# Altium integrated library altera-stratix-iv.IntLib: 38 symbols (part 13 of 21)
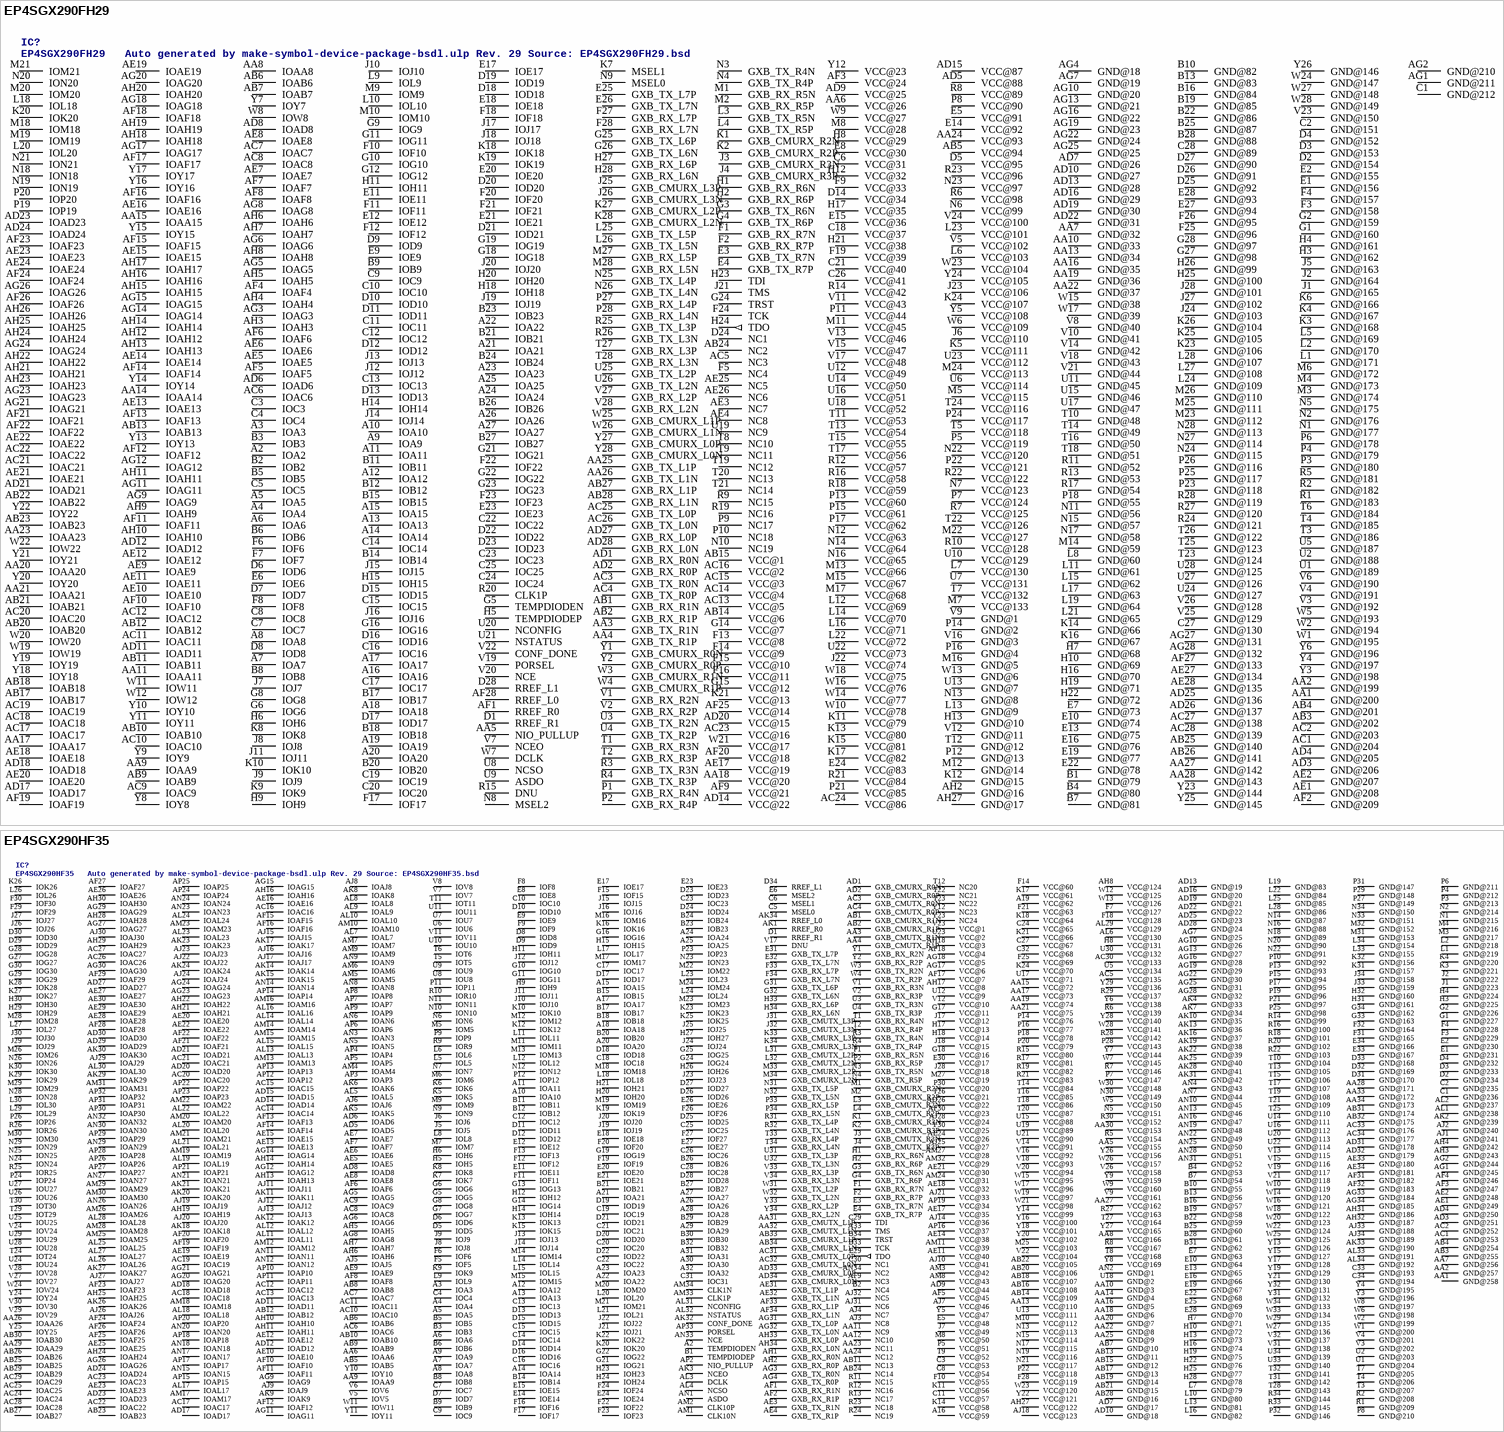
[diagram p28: symbols EP4SGX290FH29 to EP4SGX290HF35]

## EP4SGX290FH29
designator IC?, comment EP4SGX290FH29   Auto generated by make-symbol-device-package-bsdl.ulp Rev. 29 Source: EP4SGX290FH29.bsd
MPN: EP4SGX290FH29C3N; OC_FARNELL: unknown; OC_NEWARK: 52R1895
footprint FBGA780
pins: A2 IOA2, A3 IOA3, A4 IOA4, A5 IOA5, A6 IOA6, A7 IOA7, A8 IOA8, A9 IOA9, A10 IOA10, A11 IOA11, A12 IOA12, A13 IOA13, A14 IOA14, A15 IOA15, A16 IOA16, A17 IOA17, A18 IOA18, A19 IOA19, A20 IOA20, A21 IOA21, A22 IOA22, A23 IOA23, A24 IOA24, A25 IOA25, A26 IOA26, A27 IOA27, AA1 GND@200 (power), AA2 GND@199 (power), AA3 GXB_TX_R1N, AA4 GXB_TX_R1P, AA5 NIO_PULLUP, AA6 VCC@26 (power), AA7 GND@32 (power), AA8 IOAA8, AA9 IOAA9, AA10 GND@33 (power), AA11 IOAA11, AA13 GND@34 (power), AA14 IOAA14, AA15 IOAA15, AA16 GND@35 (power), AA17 IOAA17, AA18 VCC@20 (power), AA19 GND@36 (power), AA20 IOAA20, AA21 IOAA21, AA22 GND@37 (power), AA23 IOAA23, AA24 VCC@93 (power), AA25 GXB_TX_L1P, AA26 GXB_TX_L1N, AA27 GND@142 (power), AA28 GND@143 (power), AB1 GXB_RX_R1N, AB2 GXB_RX_R1P, AB3 GND@202 (power), AB4 GND@201 (power), AB5 VCC@94 (power), AB6 IOAB6, AB7 IOAB7, AB9 IOAB9, AB10 IOAB10, AB11 IOAB11, AB12 IOAB12, AB13 IOAB13, AB14 VCC@6 (power), AB15 VCC@1 (power), AB17 IOAB17, AB18 IOAB18, AB20 IOAB20, AB21 IOAB21, AB22 IOAB22, AB23 IOAB23, AB24 NC2, AB25 GND@140 (power), AB26 GND@141 (power), AB27 GXB_RX_L1P, AB28 GXB_RX_L1N, AC1 GND@204 (power), AC2 GND@203 (power), AC3 GXB_TX_R0N, AC4 GXB_TX_R0P, AC5 NC3, AC6 IOAC6, AC7 IOAC7, AC8 IOAC8, AC9 IOAC9, AC10 IOAC10, AC11 IOAC11, AC12 IOAC12, AC13 VCC@5 (power), AC14 VCC@4 (power), AC15 VCC@3 (power), AC16 VCC@2 (power), AC17 IOAC17, AC18 IOAC18, AC19 IOAC19, AC20 IOAC20, AC21 IOAC21, AC22 IOAC22, AC23 VCC@16 (power), AC24 VCC@86 (power), AC25 GXB_TX_L0P, AC26 GXB_TX_L0N, AC27 GND@138 (power), AC28 GND@139 (power), AD1 GXB_RX_R0N, AD2 GXB_RX_R0P, AD3 GND@206 (power), AD4 GND@205 (power), AD5 VCC@88 (power), AD6 IOAD6, AD7 GND@26 (power), AD8 IOAD8, AD9 VCC@25 (power), AD10 GND@27 (power), AD11 IOAD11, AD12 IOAD12, AD13 GND@28 (power), AD14 VCC@22 (power), AD15 VCC@87 (power), AD16 GND@29 (power), AD17 IOAD17, AD18 IOAD18, AD19 GND@30 (power), AD20 VCC@15 (power), AD21 IOAD21, AD22 GND@31 (power), AD23 IOAD23, AD24 IOAD24, AD25 GND@136 (power), AD26 GND@137 (power), AD27 GXB_RX_L0P, AD28 GXB_RX_L0N, AE1 GND@208 (power), AE2 GND@207 (power), AE3 NC7, AE4 NC8, AE5 IOAE5, AE6 IOAE6, AE7 IOAE7, AE8 IOAE8, AE9 IOAE9, AE10 IOAE10, AE11 IOAE11, AE12 IOAE12, AE13 IOAE13, AE14 IOAE14, AE15 IOAE15, AE16 IOAE16, AE17 VCC@19 (power), AE18 IOAE18, AE19 IOAE19, AE20 IOAE20, AE21 IOAE21, AE22 IOAE22, AE23 IOAE23, AE24 IOAE24, AE25 NC5, AE26 NC6, AE27 GND@134 (power), AE28 GND@135 (power), AF1 RREF_R0, AF2 GND@209 (power), AF3 VCC@24 (power), AF4 IOAF4, AF5 IOAF5, AF6 IOAF6, AF7 IOAF7, AF8 IOAF8, AF9 VCC@21 (power), AF10 IOAF10, AF11 IOAF11, AF12 IOAF12, AF13 IOAF13, AF14 IOAF14, AF15 IOAF15, AF16 IOAF16, AF17 IOAF17, AF18 IOAF18, AF19 IOAF19, AF20 VCC@18 (power), AF21 IOAF21, AF22 IOAF22, AF23 IOAF23, AF24 IOAF24, AF25 VCC@14 (power), AF26 IOAF26, AF27 GND@133 (power), AF28 RREF_L0, AG1 GND@211 (power), AG2 GND@210 (power), AG3 IOAG3, AG4 GND@18 (power), AG5 IOAG5, AG6 IOAG6, AG7 GND@19 (power), AG8 IOAG8, AG9 IOAG9, AG10 GND@20 (power), AG11 IOAG11, AG12 IOAG12, AG13 GND@21 (power), AG14 IOAG14, AG15 IOAG15, AG16 GND@22 (power), AG17 IOAG17, AG18 IOAG18, AG19 GND@23 (power), AG20 IOAG20, AG21 IOAG21, AG22 GND@24 (power), AG23 IOAG23, AG24 IOAG24, AG25 GND@25 (power), AG26 IOAG26, AG27 GND@131 (power), AG28 GND@132 (power), AH2 GND@16 (power), AH3 IOAH3, AH4 IOAH4, AH5 IOAH5, AH6 IOAH6, AH7 IOAH7, AH8 IOAH8, AH9 IOAH9, AH10 IOAH10, AH11 IOAH11, AH12 IOAH12, AH13 IOAH13, AH14 IOAH14, AH15 IOAH15, AH16 IOAH16, AH17 IOAH17, AH18 IOAH18, AH19 IOAH19, AH20 IOAH20, AH21 IOAH21, AH22 IOAH22, AH23 IOAH23, AH24 IOAH24, AH25 IOAH25, AH26 IOAH26, AH27 GND@17 (power), B1 GND@79 (power), B2 IOB2, B3 IOB3, B4 GND@80 (power), B5 IOB5, B6 IOB6, B7 GND@81 (power), B8 IOB8, B9 IOB9, B10 GND@82 (power), B11 IOB11, B12 IOB12, B13 GND@83 (power), B14 IOB14, B15 IOB15, B16 GND@84 (power), B17 IOB17, B18 IOB18, B19 GND@85 (power), B20 IOB20, B21 IOB21, B22 GND@86 (power), B23 IOB23, B24 IOB24, B25 GND@87 (power), B26 IOB26, B27 IOB27, B28 GND@88 (power), C1 GND@212 (power), C2 GND@151 (power), C3 IOC3, C4 IOC4, C5 IOC5, C6 VCC@31 (power), C7 IOC7, C8 IOC8, C9 IOC9, C10 IOC10, C11 IOC11, C12 IOC12, C13 IOC13, C14 IOC14, C15 IOC15, C16 IOC16, C17 IOC17, C18 VCC@37 (power), C19 IOC19, C20 IOC20, C21 VCC@40 (power), C22 IOC22, C23 IOC23, C24 IOC24, C25 IOC25, C26 VCC@41 (power), C27 GND@130 (power), C28 GND@89 (power), D1 RREF_R1, D2 GND@154 (power), D3 GND@153 (power), D4 GND@152 (power), D5 VCC@95 (power), D6 IOD6, D7 IOD7, D8 IOD8, D9 IOD9, D10 IOD10, D11 IOD11, D12 IOD12, D13 IOD13, D14 VCC@34 (power), D15 IOD15, D16 IOD16, D17 IOD17, D18 IOD18, D19 IOD19, D20 IOD20, D21 IOD21, D22 IOD22, D23 IOD23, D24 NC1, D25 GND@92 (power), D26 GND@91 (power), D27 GND@90 (power), D28 RREF_L1, E1 GND@156 (power), E2 GND@155 (power), E3 GXB_TX_R7N, E4 GXB_TX_R7P, E5 VCC@91 (power), E6 IOE6, E7 GND@73 (power), E8 VCC@30 (power), E9 IOE9, E10 GND@74 (power), E11 IOE11, E12 IOE12, E13 GND@75 (power), E14 VCC@92 (power), E15 VCC@36 (power), E16 GND@76 (power), E17 IOE17, E18 IOE18, E19 GND@77 (power), E20 IOE20, E21 IOE21, E22 GND@78 (power), E23 IOE23, E24 VCC@83 (power), E25 GXB_TX_L7P, E26 GXB_TX_L7N, E27 GND@94 (power), E28 GND@93 (power), F1 GXB_RX_R7N, F2 GXB_RX_R7P, F3 GND@158 (power), F4 GND@157 (power), F5 NC4, F6 IOF6, F7 IOF7, F8 IOF8, F9 VCC@33 (power), F10 IOF10, F11 IOF11, F12 IOF12, F13 VCC@8 (power), F14 VCC@9 (power), F15 VCC@10 (power), F16 VCC@11 (power), F17 IOF17, F18 IOF18, F19 VCC@39 (power), F20 IOF20, F21 IOF21, F22 IOF22, F23 IOF23, F24 TCK, F25 GND@96 (power), F26 GND@95 (power), F27 GXB_RX_L7P, F28 GXB_RX_L7N, G1 GND@160 (power), G2 GND@159 (power), G3 GXB_TX_R6N, G4 GXB_TX_R6P, G5 TEMPDIODEN, G6 IOG6, G8 IOG8, G9 IOG9, G10 IOG10, G11 IOG11, G12 IOG12, G14 VCC@7 (power), G15 VCC@12 (power), G16 IOG16, G18 IOG18, G19 IOG19, G21 IOG21, G22 IOG22, G23 IOG23, G24 TRST, G25 GXB_TX_L6P, G26 GXB_TX_L6N, G27 GND@98 (power), G28 GND@97 (power), H1 GXB_RX_R6N, H2 GXB_RX_R6P, H3 GND@162 (power), H4 GND@161 (power), H5 TEMPDIODEP, H6 IOH6, H7 GND@68 (power), H8 VCC@29 (power), H9 IOH9, H10 GND@69 (power), H11 IOH11, H12 VCC@32 (power), H13 GND@10 (power), H14 IOH14, H15 IOH15, H16 GND@70 (power), H17 VCC@35 (power), H18 IOH18, H19 GND@71 (power), H20 IOH20, H21 VCC@38 (power), H22 GND@72 (power), H23 TDI, H24 TDO (out), H25 GND@100 (power), H26 GND@99 (power), H27 GXB_RX_L6P, H28 GXB_RX_L6N, J1 GND@165 (power), J2 GND@164 (power), J3 GXB_CMURX_R3N, J4 GXB_CMURX_R3P, J5 GND@163 (power), J6 VCC@110 (power), J7 IOJ7, J8 IOJ8, J9 IOJ9, J10 IOJ10, J11 IOJ11, J12 IOJ12, J13 IOJ13, J14 IOJ14, J15 IOJ15, J16 IOJ16, J17 IOJ17, J18 IOJ18, J19 IOJ19, J20 IOJ20, J21 TMS, J22 VCC@74 (power), J23 VCC@106 (power), J24 GND@103 (power), J25 GXB_CMURX_L3P, J26 GXB_CMURX_L3N, J27 GND@102 (power), J28 GND@101 (power), K1 GXB_CMURX_R2N, K2 GXB_CMURX_R2P, K3 GND@168 (power), K4 GND@167 (power), K5 VCC@111 (power), K6 GND@166 (power), K7 MSEL1, K8 IOK8, K9 IOK9, K10 IOK10, K11 VCC@79 (power), K12 GND@15 (power), K13 VCC@80 (power), K14 GND@66 (power), K15 VCC@81 (power), K16 GND@67 (power), K17 VCC@82 (power), K18 IOK18, K19 IOK19, K20 IOK20, K21 VCC@13 (power), K23 GND@106 (power), K24 VCC@107 (power), K25 GND@105 (power), K26 GND@104 (power), K27 GXB_CMURX_L2P, K28 GXB_CMURX_L2N, L1 GND@171 (power), L2 GND@170 (power), L3 GXB_TX_R5N, L4 GXB_TX_R5P, L5 GND@169 (power), L6 VCC@103 (power), L7 VCC@130 (power), L8 GND@60 (power), L9 IOL9, L10 IOL10, L11 GND@61 (power), L12 VCC@69 (power), L13 GND@9 (power), L14 VCC@70 (power), L15 GND@62 (power), L16 VCC@71 (power), L17 GND@63 (power), L18 IOL18, L19 GND@64 (power), L20 IOL20, L21 GND@65 (power), L22 VCC@72 (power), L23 VCC@101 (power), L24 GND@109 (power), L25 GXB_TX_L5P, L26 GXB_TX_L5N, L27 GND@108 (power), L28 GND@107 (power), M1 GXB_RX_R5N, M2 GXB_RX_R5P, M3 GND@174 (power), M4 GND@173 (power), M5 VCC@115 (power), M6 GND@172 (power), M7 VCC@133 (power), M8 VCC@28 (power), M9 IOM9, M10 IOM10, M11 VCC@45 (power), M12 GND@14 (power), M13 VCC@66 (power), M14 GND@59 (power), M15 VCC@67 (power), M16 GND@5 (power), M17 VCC@68 (power), M18 IOM18, M19 IOM19, M20 IOM20, M21 IOM21, M22 VCC@127 (power), M23 GND@112 (power), M24 VCC@113 (power), M25 GND@111 (power), M26 GND@110 (power), M27 GXB_RX_L5P, M28 GXB_RX_L5N, N1 GND@177 (power), N2 GND@176 (power), N3 GXB_TX_R4N, N4 GXB_TX_R4P, N5 GND@175 (power), N6 VCC@99 (power), N7 VCC@123 (power), N8 MSEL2, N9 MSEL0, N10 NC19, N11 GND@56 (power), N12 VCC@63 (power), N13 GND@8 (power), N14 VCC@64 (power), N15 GND@57 (power), N16 VCC@65 (power), N17 GND@58 (power), N18 ION18, N19 ION19, N20 ION20, N21 ION21, N22 VCC@120 (power), N23 VCC@97 (power), N24 GND@115 (power), N25 GXB_TX_L4P, N26 GXB_TX_L4N, N27 GND@114 (power), N28 GND@113 (power), P1 GXB_RX_R4N, P2 GXB_RX_R4P, P3 GND@180 (power), P4 GND@179 (power), P5 VCC@119 (power), P6 GND@178 (power), P7 VCC@124 (power), P8 VCC@90 (power), P9 NC17, P10 NC18, P11 VCC@44 (power), P12 GND@13 (power), P13 VCC@60 (power), P14 GND@2 (power), P15 VCC@61 (power), P16 GND@4 (power), P17 VCC@62 (power), P18 GND@55 (power), P19 IOP19, P20 IOP20, P21 VCC@85 (power), P22 VCC@121 (power), P23 GND@118 (power), P24 VCC@117 (power), P25 GND@117 (power), P26 GND@116 (power), P27 GXB_RX_L4P, P28 GXB_RX_L4N, R1 GND@183 (power), R2 GND@182 (power), R3 GXB_TX_R3N, R4 GXB_TX_R3P, R5 GND@181 (power), R6 VCC@98 (power), R7 VCC@125 (power), R8 VCC@89 (power), R9 NC15, R10 VCC@128 (power), R11 GND@52 (power), R12 VCC@57 (power), R13 GND@53 (power), R14 VCC@42 (power), R15 DNU, R16 VCC@58 (power), R17 GND@54 (power), R18 VCC@59 (power), R19 NC16, R20 CLK1P, R21 VCC@84 (power), R22 VCC@122 (power), R23 VCC@96 (power), R24 GND@121 (power), R25 GXB_TX_L3P, R26 GXB_TX_L3N, R27 GND@120 (power), R28 GND@119 (power), T1 GXB_RX_R3N, T2 GXB_RX_R3P, T3 GND@186 (power), T4 GND@185 (power), T5 VCC@118 (power), T6 GND@184 (power), T7 VCC@132 (power), T8 NC10, T9 NC11, T10 GND@48 (power), T11 VCC@53 (power), T12 GND@12 (power), T13 VCC@54 (power), T14 GND@49 (power), T15 VCC@55 (power), T16 GND@50 (power), T17 VCC@56 (power), T18 GND@51 (power), T19 NC12, T20 NC13, T21 NC14, T22 VCC@126 (power), T23 GND@124 (power), T24 VCC@116 (power), T25 GND@123 (power), T26 GND@122 (power), T27 GXB_RX_L3P, T28 GXB_RX_L3N, U1 GND@189 (power), U2 GND@188 (power), U3 GXB_TX_R2N, U4 GXB_TX_R2P, U5 GND@187 (power), U6 VCC@114 (power), U7 VCC@131 (power), U8 NCSO, U9 ASDO, U10 VCC@129 (power), U11 GND@45 (power), U12 VCC@49 (power), U13 GND@7 (power), U14 VCC@50 (power), U15 GND@46 (power), U16 VCC@51 (power), U17 GND@47 (power), U18 VCC@52 (power), U19 NC9, U20 NCONFIG, U21 NSTATUS, U22 VCC@73 (power), U23 VCC@112 (power), U24 GND@127 (power), U25 GXB_TX_L2P, U26 GXB_TX_L2N, U27 GND@126 (power), U28 GND@125 (power), V1 GXB_RX_R2N, V2 GXB_RX_R2P, V3 GND@192 (power), V4 GND@191 (power), V5 VCC@102 (power), V6 GND@190 (power), V7 NCEO, V8 GND@40 (power), V9 GND@1 (power), V10 GND@41 (power), V11 VCC@43 (power), V12 GND@11 (power), V13 VCC@46 (power), V14 GND@42 (power), V15 VCC@47 (power), V16 GND@3 (power), V17 VCC@48 (power), V18 GND@43 (power), V19 PORSEL, V20 NCE, V21 GND@44 (power), V22 CONF_DONE, V23 GND@150 (power), V24 VCC@100 (power), V25 GND@129 (power), V26 GND@128 (power), V27 GXB_RX_L2P, V28 GXB_RX_L2N, W1 GND@195 (power), W2 GND@194 (power), W3 GXB_CMURX_R1N, W4 GXB_CMURX_R1P, W5 GND@193 (power), W6 VCC@109 (power), W7 DCLK, W8 IOW8, W9 VCC@27 (power), W10 VCC@78 (power), W11 IOW11, W12 IOW12, W13 GND@6 (power), W14 VCC@77 (power), W15 GND@38 (power), W16 VCC@76 (power), W17 GND@39 (power), W18 VCC@75 (power), W19 IOW19, W20 IOW20, W21 VCC@17 (power), W22 IOW22, W23 VCC@104 (power), W24 GND@147 (power), W25 GXB_CMURX_L1P, W26 GXB_CMURX_L1N, W27 GND@148 (power), W28 GND@149 (power), Y1 GXB_CMURX_R0N, Y2 GXB_CMURX_R0P, Y3 GND@198 (power), Y4 GND@197 (power), Y5 VCC@108 (power), Y6 GND@196 (power), Y7 IOY7, Y8 IOY8, Y9 IOY9, Y10 IOY10, Y11 IOY11, Y12 VCC@23 (power), Y13 IOY13, Y14 IOY14, Y15 IOY15, Y16 IOY16, Y17 IOY17, Y18 IOY18, Y19 IOY19, Y20 IOY20, Y21 IOY21, Y22 IOY22, Y23 GND@144 (power), Y24 VCC@105 (power), Y25 GND@145 (power), Y26 GND@146 (power), Y27 GXB_CMURX_L0P, Y28 GXB_CMURX_L0N

## EP4SGX290HF35
designator IC?, comment EP4SGX290HF35   Auto generated by make-symbol-device-package-bsdl.ulp Rev. 29 Source: EP4SGX290HF35.bsd
MPN: EP4SGX290HF35C3N; OC_FARNELL: unknown; OC_NEWARK: 52R1905
footprint FBGA1152
pins: A2 TEMPDIODEN, A3 IOA3, A4 IOA4, A5 IOA5, A6 IOA6, A7 IOA7, A8 IOA8, A9 IOA9, A10 IOA10, A11 IOA11, A12 IOA12, A13 IOA13, A14 IOA14, A15 IOA15, A16 VCC@59 (power), A17 IOA17, A18 IOA18, A19 VCC@62 (power), A20 IOA20, A21 IOA21, A22 IOA22, A23 IOA23, A24 IOA24, A25 IOA25, A26 IOA26, A27 IOA27, A28 IOA28, A29 IOA29, A30 IOA30, A31 IOA31, A32 IOA32, A33 TMS, AA1 GND@258 (power), AA2 GND@257 (power), AA3 GXB_CMUTX_R1N, AA4 GXB_CMUTX_R1P, AA5 VCC@155 (power), AA6 IOAA6, AA7 GND@256 (power), AA8 VCC@166 (power), AA9 IOAA9, AA10 GND@3 (power), AA11 NC9, AA12 NC10, AA13 VCC@110 (power), AA14 GND@4 (power), AA15 VCC@72 (power), AA16 GND@5 (power), AA17 VCC@73 (power), AA18 GND@6 (power), AA19 VCC@74 (power), AA20 GND@7 (power), AA21 VCC@75 (power), AA22 GND@8 (power), AA23 NC11, AA24 NC12, AA25 GND@9 (power), AA26 IOAA26, AA27 VCC@162 (power), AA28 GND@171 (power), AA29 IOAA29, AA30 VCC@153 (power), AA31 GXB_CMUTX_L1P, AA32 GXB_CMUTX_L1N, AA33 GND@172 (power), AA34 GND@173 (power), AB1 GXB_CMURX_R1N, AB2 GXB_CMURX_R1P, AB3 GND@255 (power), AB4 GND@254 (power), AB5 IOAB5, AB6 IOAB6, AB7 GND@10 (power), AB8 IOAB8, AB9 IOAB9, AB10 IOAB10, AB11 NC13, AB12 IOAB12, AB13 GND@11 (power), AB14 VCC@109 (power), AB15 GND@12 (power), AB16 VCC@108 (power), AB17 GND@13 (power), AB18 VCC@107 (power), AB19 GND@14 (power), AB20 VCC@106 (power), AB21 GND@15 (power), AB22 VCC@105 (power), AB23 IOAB23, AB24 NC14, AB25 IOAB25, AB26 IOAB26, AB27 IOAB27, AB28 GND@16 (power), AB29 IOAB29, AB30 IOAB30, AB31 GND@174 (power), AB32 GND@175 (power), AB33 GXB_CMURX_L1P, AB34 GXB_CMURX_L1N, AC1 GND@253 (power), AC2 GND@252 (power), AC3 GXB_CMUTX_R0N, AC4 GXB_CMUTX_R0P, AC5 VCC@135 (power), AC6 IOAC6, AC7 IOAC7, AC8 IOAC8, AC9 IOAC9, AC10 IOAC10, AC11 IOAC11, AC12 IOAC12, AC13 IOAC13, AC14 IOAC14, AC15 IOAC15, AC16 IOAC16, AC17 IOAC17, AC18 IOAC18, AC19 IOAC19, AC20 IOAC20, AC21 IOAC21, AC22 IOAC22, AC23 IOAC23, AC24 IOAC24, AC25 IOAC25, AC26 IOAC26, AC27 IOAC27, AC28 IOAC28, AC29 IOAC29, AC30 VCC@133 (power), AC31 GXB_CMUTX_L0P, AC32 GXB_CMUTX_L0N, AC33 GND@176 (power), AC34 GND@177 (power), AD1 GXB_CMURX_R0N, AD2 GXB_CMURX_R0P, AD3 GND@251 (power), AD4 GND@250 (power), AD5 IOAD5, AD6 IOAD6, AD7 GND@17 (power), AD8 IOAD8, AD9 VCC@44 (power), AD10 GND@18 (power), AD11 IOAD11, AD12 IOAD12, AD13 GND@19 (power), AD14 IOAD14, AD15 IOAD15, AD16 GND@20 (power), AD17 IOAD17, AD18 IOAD18, AD19 GND@21 (power), AD20 IOAD20, AD21 IOAD21, AD22 GND@22 (power), AD23 IOAD23, AD24 IOAD24, AD25 GND@23 (power), AD26 VCC@22 (power), AD27 IOAD27, AD28 GND@24 (power), AD29 IOAD29, AD30 IOAD30, AD31 GND@178 (power), AD32 GND@179 (power), AD33 GXB_CMURX_L0P, AD34 GXB_CMURX_L0N, AE1 GND@249 (power), AE2 GND@248 (power), AE3 GXB_TX_R1N, AE4 GXB_TX_R1P, AE5 IOAE5, AE6 IOAE6, AE7 IOAE7, AE8 IOAE8, AE9 IOAE9, AE10 IOAE10, AE11 VCC@40 (power), AE12 IOAE12, AE13 IOAE13, AE14 VCC@38 (power), AE15 IOAE15, AE16 IOAE16, AE17 VCC@35 (power), AE18 VCC@32 (power), AE19 IOAE19, AE20 IOAE20, AE21 VCC@30 (power), AE22 IOAE22, AE23 IOAE23, AE24 VCC@26 (power), AE25 IOAE25, AE26 IOAE26, AE27 IOAE27, AE28 IOAE28, AE29 IOAE29, AE30 IOAE30, AE31 GXB_TX_L1P, AE32 GXB_TX_L1N, AE33 GND@180 (power), AE34 GND@181 (power), AF1 GXB_RX_R1N, AF2 GXB_RX_R1P, AF3 GND@247 (power), AF4 GND@246 (power), AF5 VCC@45 (power), AF6 IOAF6, AF7 IOAF7, AF8 IOAF8, AF9 NC3, AF10 IOAF10, AF11 IOAF11, AF12 IOAF12, AF13 IOAF13, AF14 IOAF14, AF15 IOAF15, AF16 IOAF16, AF17 VCC@7 (power), AF18 VCC@4 (power), AF19 IOAF19, AF20 IOAF20, AF21 IOAF21, AF22 IOAF22, AF23 IOAF23, AF24 IOAF24, AF25 IOAF25, AF26 IOAF26, AF27 IOAF27, AF28 IOAF28, AF29 IOAF29, AF30 VCC@23 (power), AF31 GND@182 (power), AF32 GND@183 (power), AF33 GXB_RX_L1P, AF34 GXB_RX_L1N, AG1 GND@245 (power), AG2 GND@244 (power), AG3 GXB_TX_R0N, AG4 GXB_TX_R0P, AG5 IOAG5, AG6 IOAG6, AG7 GND@25 (power), AG8 IOAG8, AG9 IOAG9, AG10 GND@26 (power), AG11 IOAG11, AG12 IOAG12, AG13 GND@27 (power), AG14 IOAG14, AG15 IOAG15, AG16 GND@28 (power), AG17 VCC@6 (power), AG18 VCC@5 (power), AG19 GND@29 (power), AG20 IOAG20, AG21 IOAG21, AG22 GND@30 (power), AG23 IOAG23, AG24 IOAG24, AG25 GND@31 (power), AG26 IOAG26, AG27 IOAG27, AG28 GND@32 (power), AG29 IOAG29, AG30 IOAG30, AG31 GXB_TX_L0P, AG32 GXB_TX_L0N, AG33 GND@184 (power), AG34 GND@185 (power), AH1 GXB_RX_R0N, AH2 GXB_RX_R0P, AH3 GND@243 (power), AH4 GND@242 (power), AH5 IOAH5, AH6 IOAH6, AH7 IOAH7, AH8 VCC@124 (power), AH10 IOAH10, AH11 IOAH11, AH13 IOAH13, AH14 IOAH14, AH16 IOAH16, AH17 VCC@8 (power), AH18 VCC@3 (power), AH19 IOAH19, AH21 IOAH21, AH22 IOAH22, AH24 IOAH24, AH25 IOAH25, AH27 VCC@122 (power), AH28 IOAH28, AH29 IOAH29, AH30 IOAH30, AH31 GND@186 (power), AH32 GND@187 (power), AH33 GXB_RX_L0P, AH34 GXB_RX_L0N, AJ1 GND@241 (power), AJ2 GND@240 (power), AJ3 NC8, AJ4 NC7, AJ5 IOAJ5, AJ6 IOAJ6, AJ7 VCC@46 (power), AJ8 IOAJ8, AJ9 IOAJ9, AJ10 VCC@41 (power), AJ11 IOAJ11, AJ12 IOAJ12, AJ13 IOAJ13, AJ14 VCC@36 (power), AJ15 IOAJ15, AJ16 IOAJ16, AJ17 IOAJ17, AJ18 VCC@123 (power), AJ19 IOAJ19, AJ20 IOAJ20, AJ21 VCC@33 (power), AJ22 IOAJ22, AJ23 IOAJ23, AJ24 IOAJ24, AJ25 VCC@27 (power), AJ26 IOAJ26, AJ27 IOAJ27, AJ28 VCC@24 (power), AJ29 IOAJ29, AJ30 IOAJ30, AJ31 NC6, AJ32 NC5, AJ33 GND@188 (power), AJ34 GND@189 (power), AK1 RREF_R0, AK2 GND@239 (power), AK3 NCEO, AK4 GND@33 (power), AK5 IOAK5, AK6 IOAK6, AK7 GND@34 (power), AK8 IOAK8, AK9 IOAK9, AK10 GND@35 (power), AK11 IOAK11, AK12 IOAK12, AK13 GND@36 (power), AK14 IOAK14, AK15 IOAK15, AK16 GND@37 (power), AK17 IOAK17, AK18 IOAK18, AK19 GND@38 (power), AK20 IOAK20, AK21 IOAK21, AK22 GND@39 (power), AK23 IOAK23, AK24 IOAK24, AK25 GND@40 (power), AK26 IOAK26, AK27 IOAK27, AK28 GND@41 (power), AK29 IOAK29, AK30 IOAK30, AK31 GND@42 (power), AK32 CONF_DONE, AK33 GND@190 (power), AK34 RREF_L0, AL1 GND@238 (power), AL2 GND@237 (power), AL3 DCLK, AL4 NCSO, AL5 IOAL5, AL6 VCC@130 (power), AL7 IOAL7, AL8 IOAL8, AL9 IOAL9, AL10 IOAL10, AL11 IOAL11, AL12 IOAL12, AL13 IOAL13, AL14 IOAL14, AL15 IOAL15, AL16 IOAL16, AL17 IOAL17, AL18 IOAL18, AL19 IOAL19, AL20 IOAL20, AL21 IOAL21, AL22 IOAL22, AL23 IOAL23, AL24 IOAL24, AL25 IOAL25, AL26 IOAL26, AL27 IOAL27, AL28 IOAL28, AL29 VCC@129 (power), AL30 IOAL30, AL31 NCONFIG, AL32 NSTATUS, AL33 GND@191 (power), AL34 GND@192 (power), AM1 CLK10N, AM2 CLK10P, AM3 VCC@42 (power), AM4 IOAM4, AM5 IOAM5, AM6 IOAM6, AM7 IOAM7, AM8 VCC@43 (power), AM9 IOAM9, AM10 IOAM10, AM11 VCC@39 (power), AM12 IOAM12, AM13 IOAM13, AM14 IOAM14, AM15 IOAM15, AM16 IOAM16, AM17 IOAM17, AM18 IOAM18, AM19 IOAM19, AM20 IOAM20, AM21 IOAM21, AM22 IOAM22, AM23 IOAM23, AM24 VCC@31 (power), AM25 IOAM25, AM26 IOAM26, AM27 VCC@28 (power), AM28 IOAM28, AM29 IOAM29, AM30 IOAM30, AM31 IOAM31, AM32 VCC@29 (power), AM33 CLK1P, AM34 CLK1N, AN1 ASDO, AN2 GND@1 (power), AN3 IOAN3, AN4 GND@43 (power), AN5 IOAN5, AN6 IOAN6, AN7 GND@44 (power), AN8 IOAN8, AN9 IOAN9, AN10 GND@45 (power), AN11 IOAN11, AN12 IOAN12, AN13 GND@46 (power), AN14 IOAN14, AN15 IOAN15, AN16 GND@47 (power), AN17 IOAN17, AN18 IOAN18, AN19 GND@48 (power), AN20 IOAN20, AN21 IOAN21, AN22 GND@49 (power), AN23 IOAN23, AN24 IOAN24, AN25 GND@50 (power), AN26 IOAN26, AN27 IOAN27, AN28 GND@51 (power), AN29 IOAN29, AN30 IOAN30, AN31 GND@52 (power), AN32 IOAN32, AN33 NCE, AN34 NC2, AP2 NIO_PULLUP, AP3 IOAP3, AP4 IOAP4, AP5 IOAP5, AP6 IOAP6, AP7 IOAP7, AP8 IOAP8, AP9 IOAP9, AP10 IOAP10, AP11 IOAP11, AP12 IOAP12, AP13 IOAP13, AP14 IOAP14, AP15 IOAP15, AP16 VCC@37 (power), AP17 IOAP17, AP18 IOAP18, AP19 VCC@34 (power), AP20 IOAP20, AP21 IOAP21, AP22 IOAP22, AP23 IOAP23, AP24 IOAP24, AP25 IOAP25, AP26 IOAP26, AP27 IOAP27, AP28 IOAP28, AP29 IOAP29, AP30 IOAP30, AP31 IOAP31, AP32 IOAP32, AP33 PORSEL, B1 TEMPDIODEP, B2 NC4, B3 IOB3, B4 GND@53 (power), B5 IOB5, B6 IOB6, B7 GND@54 (power), B8 IOB8, B9 IOB9, B10 GND@55 (power), B11 IOB11, B12 IOB12, B13 GND@56 (power), B14 IOB14, B15 IOB15, B16 GND@57 (power), B17 IOB17, B18 IOB18, B19 GND@58 (power), B20 IOB20, B21 IOB21, B22 GND@59 (power), B23 IOB23, B24 IOB24, B25 GND@60 (power), B26 IOB26, B27 IOB27, B28 GND@61 (power), B29 IOB29, B30 IOB30, B31 GND@62 (power), B32 IOB32, B33 TCK, B34 TRST, C1 GND@236 (power), C2 GND@235 (power), C3 VCC@53 (power), C4 IOC4, C5 MSEL0, C6 MSEL1, C7 IOC7, C8 VCC@54 (power), C9 IOC9, C10 IOC10, C11 VCC@57 (power), C12 IOC12, C13 IOC13, C14 IOC14, C15 IOC15, C16 IOC16, C17 IOC17, C18 IOC18, C19 IOC19, C20 IOC20, C21 IOC21, C22 IOC22, C23 IOC23, C24 VCC@65 (power), C25 IOC25, C26 IOC26, C27 VCC@67 (power), C28 IOC28, C29 TDI, C30 NC1, C31 IOC31, C32 VCC@68 (power), C33 GND@193 (power), C34 GND@194 (power), D1 RREF_R1, D2 GND@234 (power), D3 GND@233 (power), D4 GND@232 (power), D5 IOD5, D6 IOD6, D7 IOD7, D8 IOD8, D9 IOD9, D10 IOD10, D11 IOD11, D12 IOD12, D13 IOD13, D14 IOD14, D15 IOD15, D16 IOD16, D17 IOD17, D18 IOD18, D19 IOD19, D20 IOD20, D21 IOD21, D22 IOD22, D23 IOD23, D24 IOD24, D25 IOD25, D26 IOD26, D27 IOD27, D28 IOD28, D29 IOD29, D30 IOD30, D31 GND@170 (power), D32 GND@169 (power), D33 GND@168 (power), D34 RREF_L1, E1 GND@231 (power), E2 GND@230 (power), E3 GXB_TX_R7N, E4 GXB_TX_R7P, E5 VCC@48 (power), E6 MSEL2, E7 GND@63 (power), E8 IOE8, E9 IOE9, E10 GND@64 (power), E11 IOE11, E12 IOE12, E13 GND@65 (power), E14 IOE14, E15 IOE15, E16 GND@66 (power), E17 IOE17, E18 IOE18, E19 GND@67 (power), E20 IOE20, E21 IOE21, E22 GND@68 (power), E23 IOE23, E24 IOE24, E25 GND@69 (power), E26 IOE26, E27 IOE27, E28 GND@70 (power), E29 TDO (out), E30 VCC@17 (power), E31 GXB_TX_L7P, E32 GXB_TX_L7N, E33 GND@167 (power), E34 GND@166 (power), F1 GXB_RX_R7N, F2 GXB_RX_R7P, F3 GND@229 (power), F4 GND@228 (power), F5 IOF5, F6 IOF6, F7 VCC@127 (power), F8 IOF8, F9 IOF9, F10 VCC@55 (power), F11 IOF11, F12 IOF12, F13 IOF13, F14 VCC@60 (power), F15 IOF15, F16 IOF16, F17 IOF17, F18 VCC@128 (power), F19 IOF19, F20 IOF20, F21 VCC@63 (power), F22 IOF22, F23 IOF23, F24 IOF24, F25 VCC@69 (power), F26 IOF26, F27 IOF27, F28 VCC@119 (power), F29 IOF29, F30 IOF30, F31 GND@165 (power), F32 GND@164 (power), F33 GXB_RX_L7P, F34 GXB_RX_L7N, G1 GND@227 (power), G2 GND@226 (power), G3 GXB_TX_R6N, G4 GXB_TX_R6P, G5 IOG5, G6 IOG6, G7 IOG7, G8 IOG8, G10 IOG10, G11 IOG11, G13 IOG13, G14 IOG14, G16 IOG16, G17 VCC@11 (power), G18 VCC@16 (power), G19 IOG19, G21 IOG21, G22 IOG22, G24 IOG24, G25 IOG25, G27 IOG27, G28 IOG28, G29 IOG29, G30 IOG30, G31 GXB_TX_L6P, G32 GXB_TX_L6N, G33 GND@163 (power), G34 GND@162 (power), H1 GXB_RX_R6N, H2 GXB_RX_R6P, H3 GND@225 (power), H4 GND@224 (power), H5 IOH5, H6 IOH6, H7 GND@71 (power), H8 VCC@131 (power), H9 IOH9, H10 GND@72 (power), H11 IOH11, H12 IOH12, H13 GND@73 (power), H14 IOH14, H15 IOH15, H16 GND@74 (power), H17 VCC@13 (power), H18 VCC@14 (power), H19 GND@75 (power), H20 IOH20, H21 IOH21, H22 GND@76 (power), H23 IOH23, H24 IOH24, H25 GND@77 (power), H26 IOH26, H27 IOH27, H28 GND@78 (power), H29 IOH29, H30 IOH30, H31 GND@161 (power), H32 GND@160 (power), H33 GXB_RX_L6P, H34 GXB_RX_L6N, J1 GND@223 (power), J2 GND@222 (power), J3 GXB_CMUTX_R3N, J4 GXB_CMUTX_R3P, J5 IOJ5, J6 IOJ6, J7 VCC@49 (power), J8 IOJ8, J9 IOJ9, J10 IOJ10, J11 IOJ11, J12 IOJ12, J13 IOJ13, J14 IOJ14, J15 IOJ15, J16 IOJ16, J17 VCC@12 (power), J18 VCC@15 (power), J19 IOJ19, J20 IOJ20, J21 IOJ21, J22 IOJ22, J23 IOJ23, J24 IOJ24, J25 IOJ25, J26 IOJ26, J27 IOJ27, J28 VCC@18 (power), J29 IOJ29, J30 IOJ30, J31 GXB_CMUTX_L3P, J32 GXB_CMUTX_L3N, J33 GND@159 (power), J34 GND@158 (power), K1 GXB_CMURX_R3N, K2 GXB_CMURX_R3P, K3 GND@221 (power), K4 GND@220 (power), K5 IOK5, K6 IOK6, K7 IOK7, K8 IOK8, K9 IOK9, K10 IOK10, K11 VCC@56 (power), K12 IOK12, K13 IOK13, K14 VCC@58 (power), K15 IOK15, K16 IOK16, K17 VCC@61 (power), K18 VCC@64 (power), K19 IOK19, K20 IOK20, K21 VCC@66 (power), K22 IOK22, K23 IOK23, K24 VCC@70 (power), K25 IOK25, K26 IOK26, K27 IOK27, K28 IOK28, K29 IOK29, K30 IOK30, K31 GND@157 (power), K32 GND@156 (power), K33 GXB_CMURX_L3P, K34 GXB_CMURX_L3N, L1 GND@219 (power), L2 GND@218 (power), L3 GXB_CMUTX_R2N, L4 GXB_CMUTX_R2P, L5 IOL5, L6 IOL6, L7 GND@79 (power), L8 IOL8, L9 IOL9, L10 GND@80 (power), L11 IOL11, L12 IOL12, L13 GND@81 (power), L14 IOL14, L15 IOL15, L16 GND@82 (power), L17 IOL17, L18 IOL18, L19 GND@83 (power), L20 IOL20, L21 IOL21, L22 GND@84 (power), L23 IOL23, L24 IOL24, L25 GND@85 (power), L26 IOL26, L27 IOL27, L28 GND@86 (power), L29 IOL29, L30 IOL30, L31 GXB_CMUTX_L2P, L32 GXB_CMUTX_L2N, L33 GND@155 (power), L34 GND@154 (power), M1 GXB_CMURX_R2N, M2 GXB_CMURX_R2P, M3 GND@217 (power), M4 GND@216 (power), M5 IOM5, M6 IOM6, M7 IOM7, M8 VCC@50 (power), M9 IOM9, M10 VCC@112 (power), M11 IOM11, M12 IOM12, M13 IOM13, M14 IOM14, M15 IOM15, M16 IOM16, M17 IOM17, M18 IOM18, M19 IOM19, M20 IOM20, M21 IOM21, M22 IOM22, M23 IOM23, M24 IOM24, M25 VCC@103 (power), M26 IOM26, M27 VCC@19 (power), M28 IOM28, M29 IOM29, M30 IOM30, M31 GND@153 (power), M32 GND@152 (power), M33 GXB_CMURX_L2P, M34 GXB_CMURX_L2N, N1 GND@215 (power), N2 GND@214 (power), N3 GXB_TX_R5N, N4 GXB_TX_R5P, N5 VCC@151 (power), N6 ION6, N7 ION7, N9 ION9, N10 ION10, N11 ION11, N12 ION12, N13 VCC@113 (power), N14 GND@87 (power), N15 VCC@114 (power), N16 GND@88 (power), N17 VCC@115 (power), N18 GND@89 (power), N19 VCC@116 (power), N20 GND@90 (power), N21 VCC@117 (power), N22 GND@91 (power), N23 ION23, N24 ION24, N25 ION25, N26 ION26, N28 ION28, N29 ION29, N30 VCC@149 (power), N31 GXB_TX_L5P, N32 GXB_TX_L5N, N33 GND@151 (power), N34 GND@150 (power), P1 GXB_RX_R5N, P2 GXB_RX_R5P, P3 GND@213 (power), P4 GND@212 (power), P5 VCC@51 (power), P6 GND@211 (power), P7 VCC@147 (power), P8 GND@210 (power), P9 IOP9, P10 GND@92 (power), P11 IOP11, P12 IOP12, P13 GND@93 (power), P14 VCC@76 (power), P15 GND@94 (power), P16 VCC@77 (power), P17 GND@95 (power), P18 VCC@78 (power), P19 GND@96 (power), P20 VCC@79 (power), P21 GND@97 (power), P22 VCC@118 (power), P23 IOP23, P24 IOP24, P25 GND@98 (power), P26 IOP26, P27 GND@149 (power), P28 VCC@143 (power), P29 GND@148 (power), P30 VCC@20 (power), P31 GND@147 (power), P32 GND@146 (power), P33 GXB_RX_L5P, P34 GXB_RX_L5N, R1 GND@209 (power), R2 GND@208 (power), R3 GXB_TX_R4N, R4 GXB_TX_R4P, R5 VCC@154 (power), R6 VCC@139 (power), R7 VCC@146 (power), R8 VCC@167 (power), R9 IOR9, R10 IOR10, R11 NC15, R12 NC16, R13 NC17, R14 GND@99 (power), R15 VCC@80 (power), R16 GND@100 (power), R17 VCC@81 (power), R18 GND@101 (power), R19 VCC@82 (power), R20 GND@102 (power), R21 VCC@83 (power), R22 GND@103 (power), R23 NC18, R24 NC19, R25 IOR25, R26 IOR26, R27 VCC@163 (power), R28 VCC@142 (power), R29 VCC@137 (power), R30 VCC@152 (power), R31 GXB_TX_L4P, R32 GXB_TX_L4N, R33 GND@145 (power), R34 GND@144 (power), T1 GXB_RX_R4N, T2 GXB_RX_R4P, T3 GND@207 (power), T4 GND@206 (power), T5 IOT5, T6 IOT6, T7 GND@205 (power), T8 VCC@168 (power), T9 VCC@52 (power), T10 GND@104 (power), T11 IOT11, T12 NC20, T13 GND@105 (power), T14 VCC@84 (power), T15 GND@106 (power), T16 VCC@85 (power), T17 GND@107 (power), T18 VCC@86 (power), T19 GND@108 (power), T20 VCC@87 (power), T21 GND@109 (power), T22 NC21, T23 NC22, T24 IOT24, T25 GND@110 (power), T26 VCC@21 (power), T27 VCC@164 (power), T28 GND@143 (power), T29 IOT29, T30 IOT30, T31 GND@142 (power), T32 GND@141 (power), T33 GXB_RX_L4P, T34 GXB_RX_L4N, U1 GND@204 (power), U2 GND@203 (power), U3 GXB_TX_R3N, U4 GXB_TX_R3P, U5 VCC@134 (power), U6 IOU6, U7 IOU7, U8 IOU8, U9 IOU9, U10 IOU10, U11 IOU11, U12 VCC@9 (power), U13 VCC@111 (power), U14 GND@111 (power), U15 VCC@88 (power), U16 GND@112 (power), U17 VCC@71 (power), U18 GND@2 (power), U19 VCC@89 (power), U20 GND@113 (power), U21 VCC@90 (power), U22 GND@114 (power), U23 VCC@2 (power), U24 IOU24, U25 IOU25, U26 IOU26, U27 IOU27, U28 IOU28, U29 IOU29, U30 VCC@132 (power), U31 GXB_TX_L3P, U32 GXB_TX_L3N, U33 GND@140 (power), U34 GND@139 (power), V1 GXB_RX_R3N, V2 GXB_RX_R3P, V3 GND@202 (power), V4 GND@201 (power), V5 IOV5, V6 IOV6, V7 IOV7, V8 IOV8, V9 VCC@161 (power), V11 IOV11, V12 VCC@10 (power), V13 GND@115 (power), V14 VCC@91 (power), V15 GND@116 (power), V16 VCC@92 (power), V17 DNU, V18 VCC@93 (power), V19 GND@117 (power), V20 VCC@94 (power), V21 GND@118 (power), V22 VCC@104 (power), V23 VCC@1 (power), V24 IOV24, V26 VCC@158 (power), V27 IOV27, V28 IOV28, V29 IOV29, V30 IOV30, V31 GND@138 (power), V32 GND@137 (power), V33 GXB_RX_L3P, V34 GXB_RX_L3N, W1 GND@200 (power), W2 GND@199 (power), W3 GXB_TX_R2N, W4 GXB_TX_R2P, W5 VCC@150 (power), W6 GND@198 (power), W7 VCC@145 (power), W8 GND@197 (power), W9 VCC@160 (power), W10 GND@119 (power), W11 IOW11, W12 VCC@125 (power), W13 VCC@126 (power), W14 GND@120 (power), W15 VCC@95 (power), W16 GND@121 (power), W17 VCC@96 (power), W18 GND@122 (power), W19 VCC@97 (power), W20 GND@123 (power), W21 VCC@98 (power), W22 GND@124 (power), W23 VCC@120 (power), W24 IOW24, W25 GND@125 (power), W26 VCC@157 (power), W27 GND@136 (power), W28 VCC@141 (power), W29 GND@135 (power), W30 VCC@148 (power), W31 GXB_TX_L2P, W32 GXB_TX_L2N, W33 GND@134 (power), W34 GND@133 (power), Y1 GXB_RX_R2N, Y2 GXB_RX_R2P, Y3 GND@196 (power), Y4 GND@195 (power), Y5 VCC@47 (power), Y6 VCC@138 (power), Y7 VCC@144 (power), Y8 VCC@169 (power), Y9 VCC@159 (power), Y10 IOY10, Y11 IOY11, Y12 NC23, Y13 GND@126 (power), Y14 VCC@99 (power), Y15 GND@127 (power), Y16 VCC@100 (power), Y17 GND@128 (power), Y18 VCC@101 (power), Y19 GND@129 (power), Y20 VCC@102 (power), Y21 GND@130 (power), Y22 VCC@121 (power), Y23 NC24, Y24 IOY24, Y25 IOY25, Y26 VCC@156 (power), Y27 VCC@165 (power), Y28 VCC@140 (power), Y29 VCC@136 (power), Y30 VCC@25 (power), Y31 GND@132 (power), Y32 GND@131 (power), Y33 GXB_RX_L2P, Y34 GXB_RX_L2N

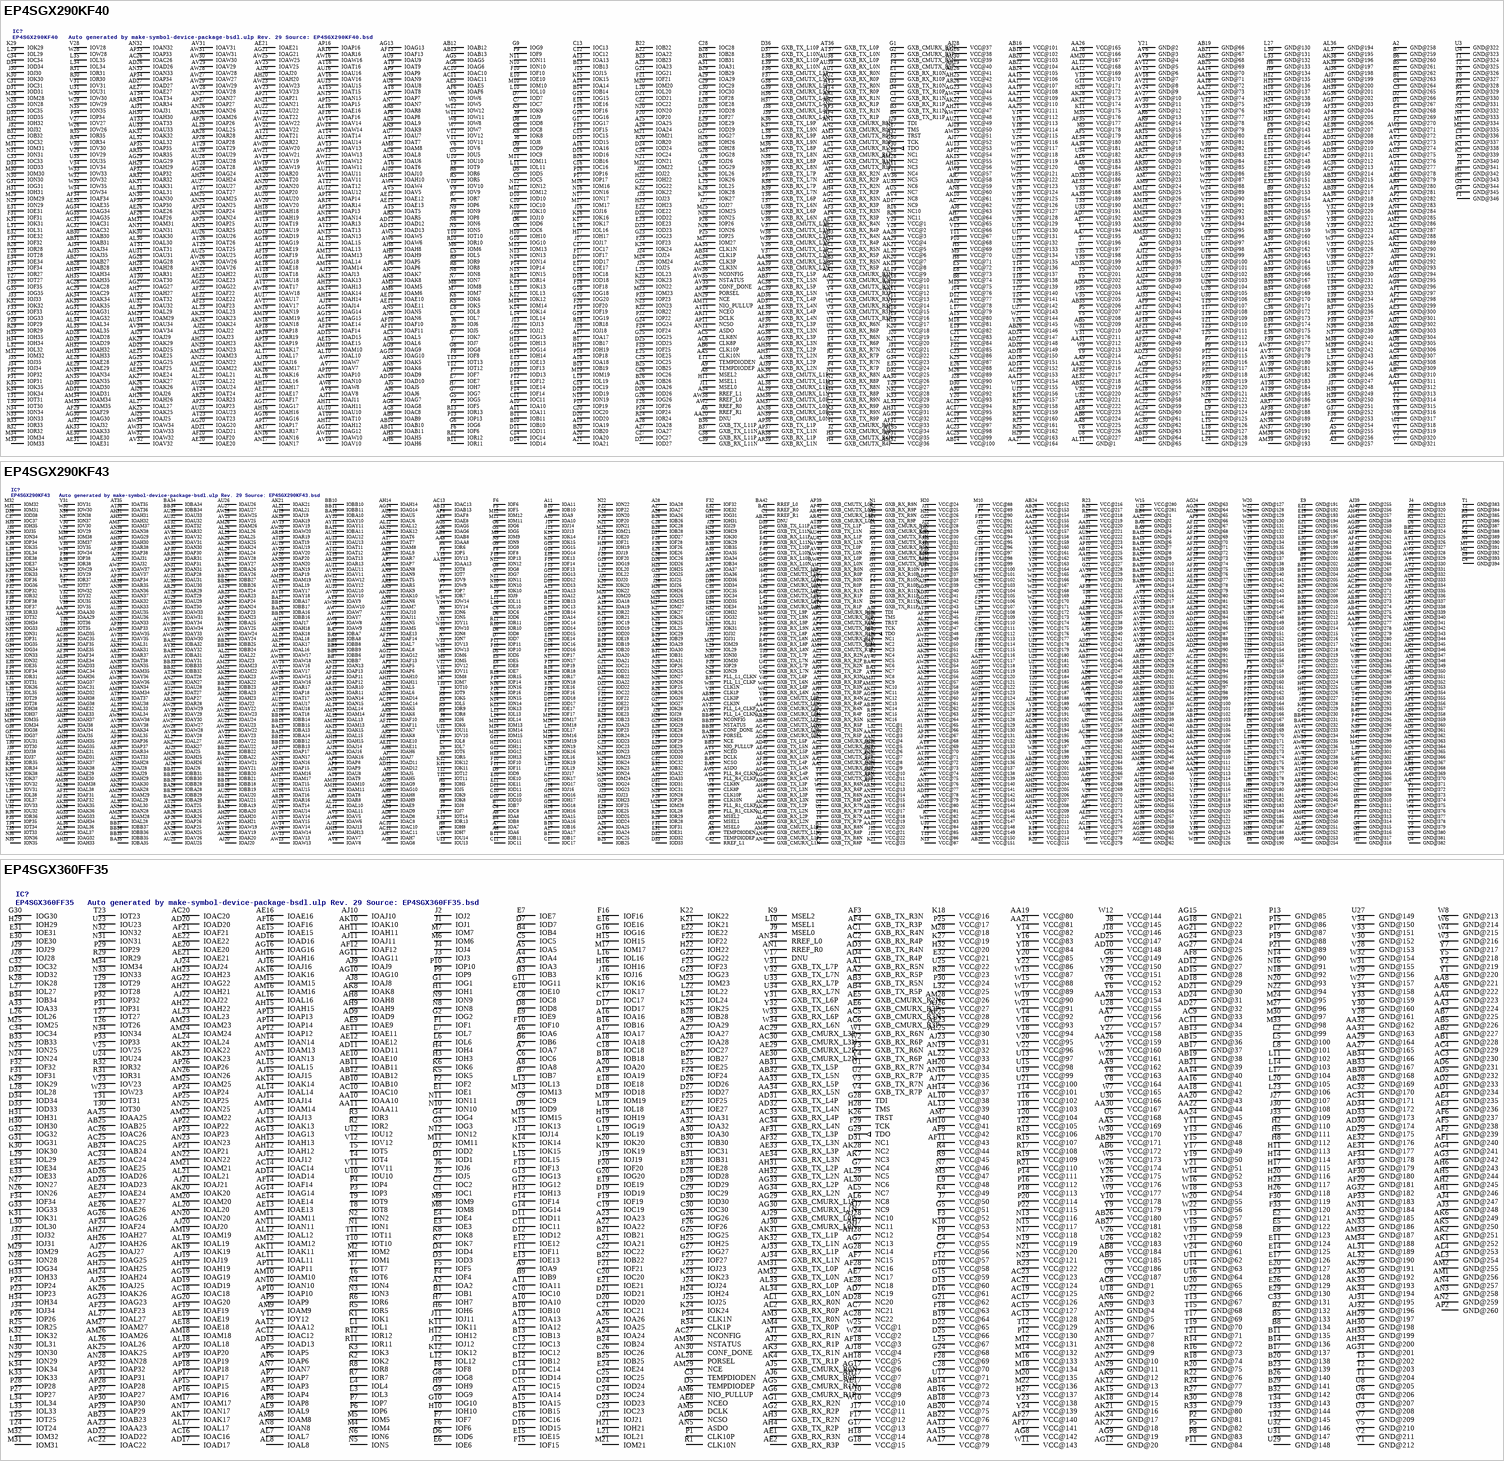
[diagram p13: symbols EP4SGX290KF40 to EP4SGX360FF35]